# Altium schematic symbol library PUI Audio Transducers.SchLib: 1 symbol
Pins are listed as number, name and electrical type; pins without a type are passive.

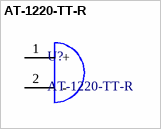
[diagram p0: symbol AT-1220-TT-R]

## AT-1220-TT-R
designator U?
Buzzers Transducer, Externally Driven Magnetic 1.5V 10mA 2.048kHz 82dB @ 1.5V, 10cm Through Hole PC Pins; Manufacturer: PUI Audio Inc.; PartNumber: AT-1220-TT-R; PackageDescription: Transducer, Body Dia 12.00mm, Height 8.7mm (max), 6.5mm Pitch; Supplier 1: Digi-Key; Supplier Part Number 1: 668-1097-ND; Package: Transducer_12mm(D)x8.5mm(H)_6.5mm(P)
footprint Transducer_12mm(D)x8.5mm(H)_6.5mm(P) (Transducer, Body Dia 12.00mm, Height 8.7mm (max), 6.5mm Pitch)
pins: 1 +, 2 -